# Altium footprint library 晶振 - 副本.PcbLib: 3 footprints
Each footprint in its own frame and in the unit in brackets; x right, y up, seen from the top. Pads: shape width x height; smd on the part's side, far side on the other; paste and mask are expansions set on the pad; w line width, h text height; cw(c..) or ccw(c..) is an arc to the next point about the centre after c.
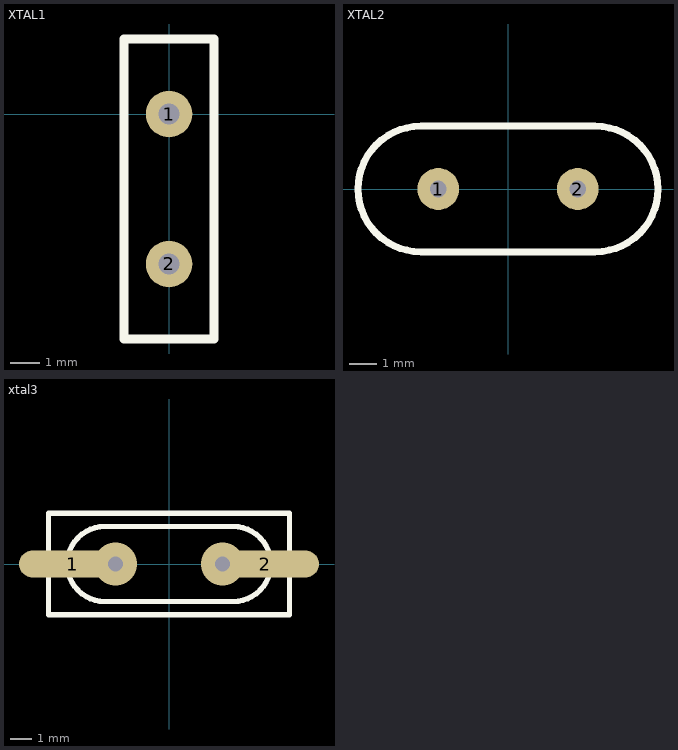
[diagram p0: the footprints below, top view; thin cyan lines are the x and y axes]

## XTAL1 [mil]
pads (2):
  round 62 hole 28: 1(0,0) 2(0,-200)
Top Overlay:
  lines w12: -60,-300 -60,100 60,100 60,-300 -60,-300

## XTAL2 [mil]
pads (2):
  round 60 hole 24: 1(-100,0) 2(100,0)
Top Overlay:
  lines w10: -125,-90 cw(c-125,0) -125,90 125,90 cw(c125,0) 125,-90 -125,-90

## xtal3 [mil]
pads (2):
  oval 200x50 smd: 1(-180,0) 2(180,0)
via -100,0 diameter 80 hole 27.56
via 100,0 diameter 80 hole 27.56
Top Overlay:
  lines w10: -225,-95 225,-95 225,95 -225,95 -225,-95 ; -120,-70 cw(c-120,0) -120,70 120,70 cw(c120,0) 120,-70 -120,-70